# Altium schematic symbol library SK6812MINI-E.SchLib: 1 symbol
Pins are listed as number, name and electrical type; pins without a type are passive.

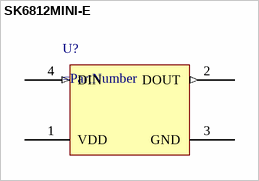
[diagram p0: symbol SK6812MINI-E]

## SK6812MINI-E
designator U?
pins: 1 VDD, 2 DOUT (out), 3 GND, 4 DIN (in)